# EAGLE library part SIM808 (library simcom)
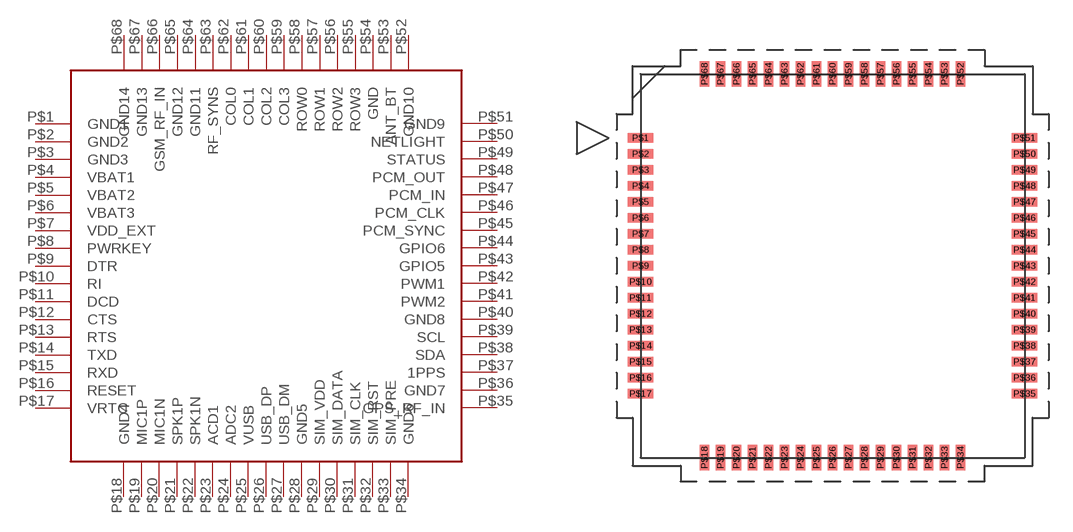
[diagram p1: symbol with the pads of SIM808; footprint SIM808]

Designator prefix -

## SIM808  [SIM808]
P$1  GND1
P$2  GND2
P$3  GND3
P$4  VBAT1
P$5  VBAT2
P$6  VBAT3
P$7  VDD_EXT
P$8  PWRKEY
P$9  DTR
P$10  RI
P$11  DCD
P$12  CTS
P$13  RTS
P$14  TXD
P$15  RXD
P$16  RESET
P$17  VRTC
P$18  GND4
P$19  MIC1P
P$20  MIC1N
P$21  SPK1P
P$22  SPK1N
P$23  ACD1
P$24  ADC2
P$25  VUSB
P$26  USB_DP
P$27  USB_DM
P$28  GND5
P$29  SIM_VDD
P$30  SIM_DATA
P$31  SIM_CLK
P$32  SIM_RST
P$33  SIM_PRE
P$34  GND6
P$35  GPS_RF_IN
P$36  GND7
P$37  1PPS
P$38  SDA
P$39  SCL
P$40  GND8
P$41  PWM2
P$42  PWM1
P$43  GPIO5
P$44  GPIO6
P$45  PCM_SYNC
P$46  PCM_CLK
P$47  PCM_IN
P$48  PCM_OUT
P$49  STATUS
P$50  NETLIGHT
P$51  GND9
P$52  GND10
P$53  ANT_BT
P$54  GND
P$55  ROW3
P$56  ROW2
P$57  ROW1
P$58  ROW0
P$59  COL3
P$60  COL2
P$61  COL1
P$62  COL0
P$63  RF_SYNS
P$64  GND11
P$65  GND12
P$66  GSM_RF_IN
P$67  GND13
P$68  GND14

## Footprint SIM808 (pad centres in mm)
smd 1.6 x 0.6: P$1 -12,8; P$2 -12,7; P$3 -12,6; P$4 -12,5; P$5 -12,4; P$6 -12,3; P$7 -12,2; P$8 -12,1; P$9 -12,0; P$10 -12,-1; P$11 -12,-2; P$12 -12,-3; P$13 -12,-4; P$14 -12,-5; P$15 -12,-6; P$16 -12,-7; P$17 -12,-8; P$35 12,-8; P$36 12,-7; P$37 12,-6; P$38 12,-5; P$39 12,-4; P$40 12,-3; P$41 12,-2; P$42 12,-1; P$43 12,0; P$44 12,1; P$45 12,2; P$46 12,3; P$47 12,4; P$48 12,5; P$49 12,6; P$50 12,7; P$51 12,8
smd 0.6 x 1.6: P$18 -8,-12; P$19 -7,-12; P$20 -6,-12; P$21 -5,-12; P$22 -4,-12; P$23 -3,-12; P$24 -2,-12; P$25 -1,-12; P$26 0,-12; P$27 1,-12; P$28 2,-12; P$29 3,-12; P$30 4,-12; P$31 5,-12; P$32 6,-12; P$33 7,-12; P$34 8,-12; P$52 8,12; P$53 7,12; P$54 6,12; P$55 5,12; P$56 4,12; P$57 3,12; P$58 2,12; P$59 1,12; P$60 0,12; P$61 -1,12; P$62 -2,12; P$63 -3,12; P$64 -4,12; P$65 -5,12; P$66 -6,12; P$67 -7,12; P$68 -8,12